# Altium schematic symbol library Printing.SchLib: 50 symbols
Pins are listed as number, name and electrical type; pins without a type are passive.

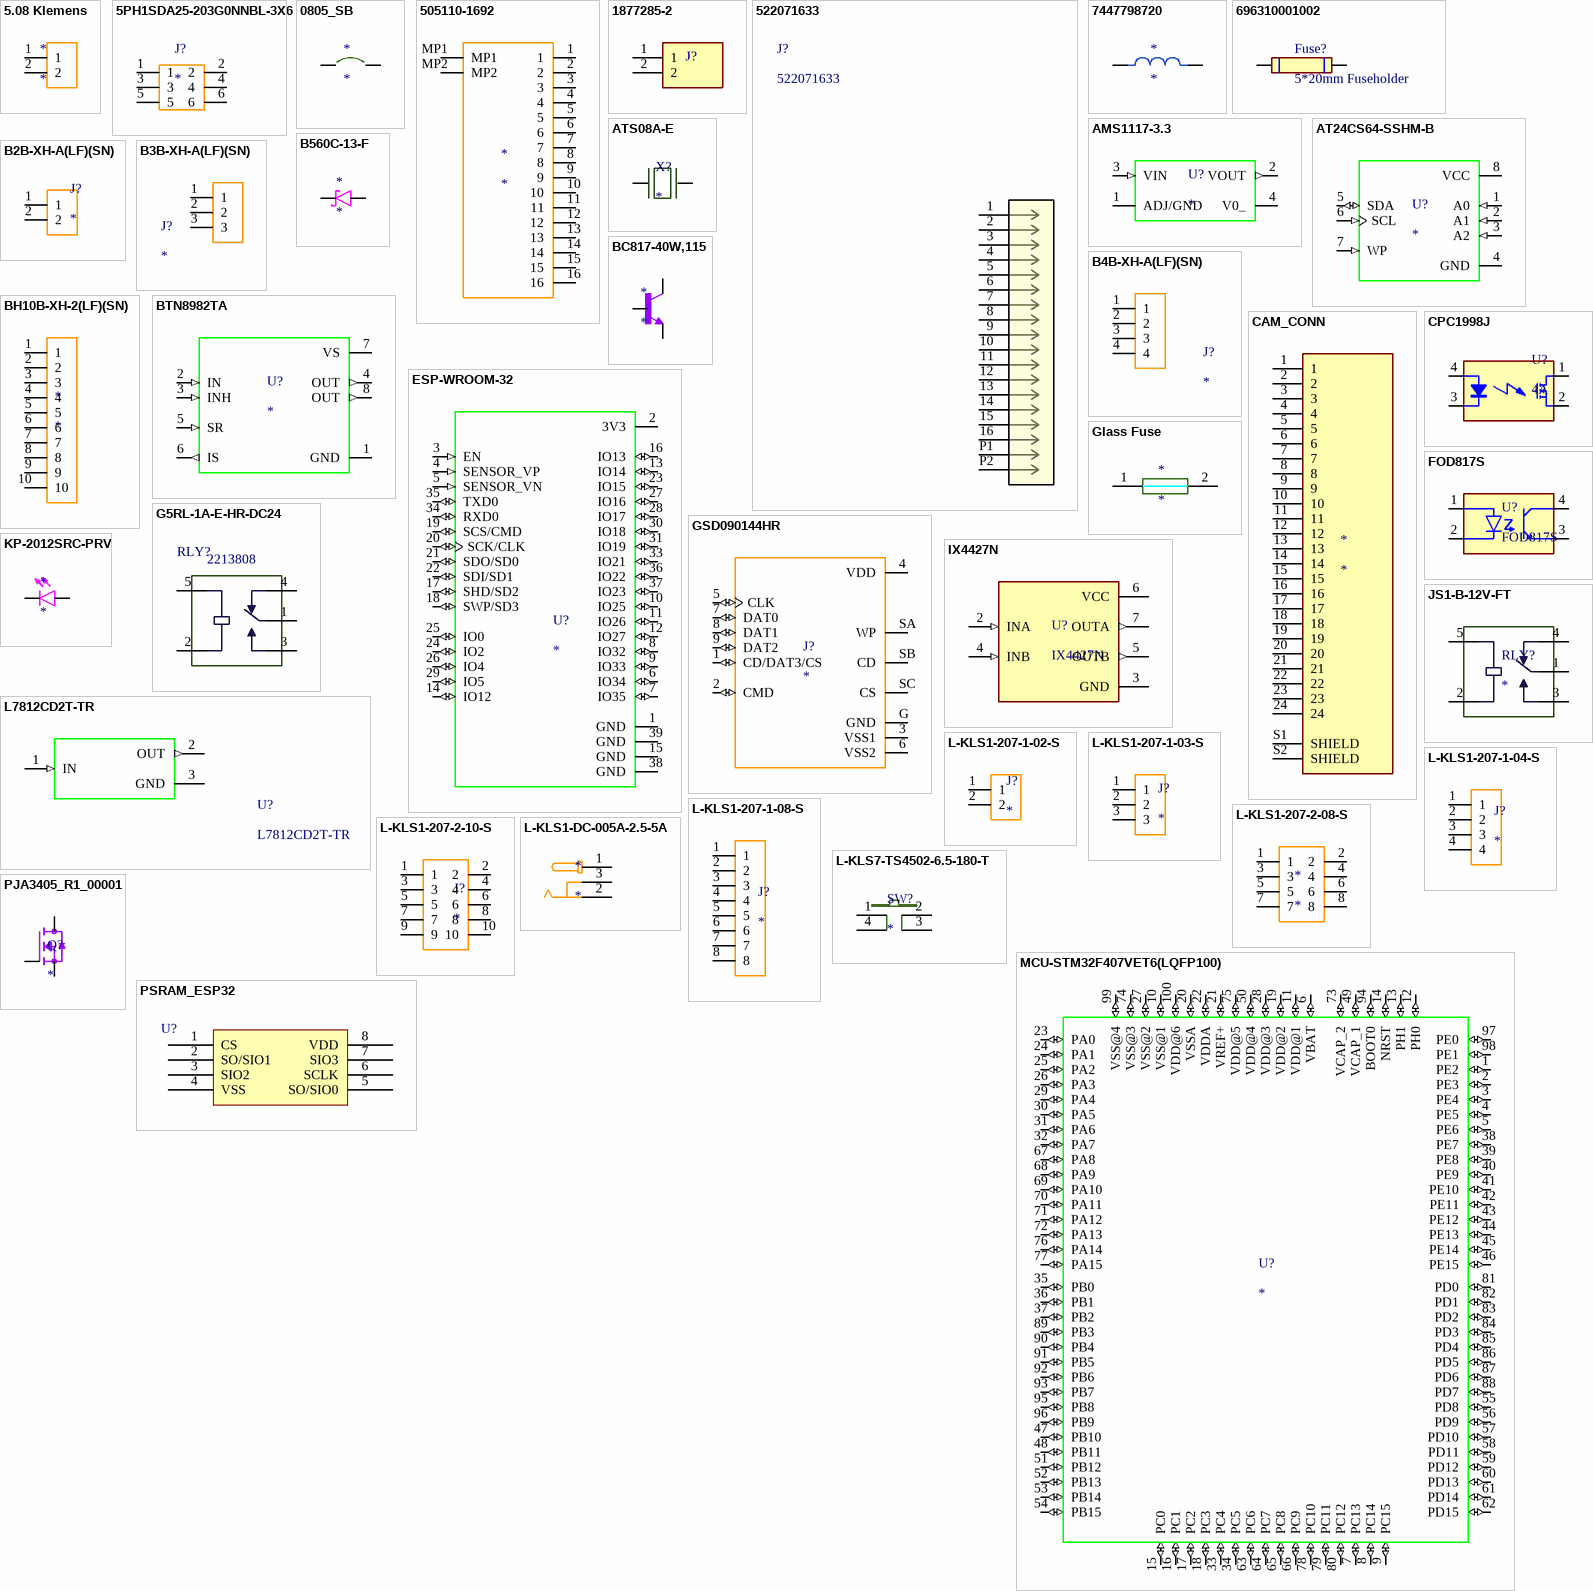
[diagram p0: symbols 5.08 Klemens to PSRAM_ESP32]

## 5.08 Klemens
designator *
footprint 5.08 Klemens
pins: 1, 2

## 5PH1SDA25-203G0NNBL-3X6
designator J?
footprint 5PH1SDA25-203G0NNBL-3X6
pins: 1, 2, 3, 4, 5, 6

## 0805_SB
designator *
footprint 0805_SB
pins: 1, 2

## 505110-1692
designator *
Conn FFC/FPC Connector SKT 16 POS 0.5mm Solder RA SMD Easy-On™ T/R; Manufacturer: Molex; Manufacturer Part Number: 505110-1692; Actuator Material: Nylon,Glass,Polyamide; Number of Positions: 16; Voltage Rating: 50V; Current Rating: 500mA; Gender: Receptacle; Pitch: 0.02inch; Supplier 1: Rs; RoHS: Yes; Category: FFC / FPC; Stock 1: 1; Mount: Surface Mount; Contact Material: Bronze; Contact Plating: Gold; Housing Material: Polymer; Min Operating Temperature: -40°C; Max Operating Temperature: 105°C; Packaging: Cut Tape; Termination: Solder; Number of Rows: 1; Series: Easy-On™ 505110; Flammability Rating: UL94 V-0; ComponentLink1URL: https://media.digikey.com/pdf/Data%20Sheets/Molex%20PDFs/FFC-FPC_Connectors.pdf?src-supplier=Digi-Key; ComponentLink1Description: https://media.digikey.com/pdf/Data%20Sheets/Molex%20PDFs/FFC-FPC_Connectors.pdf?src-supplier=Digi-Key; ComponentLink2URL: https://www.molex.com/datasheets/rohspdf/5051101692_rohs.pdf?src-supplier=Digi-Key; ComponentLink2Description: https://www.molex.com/datasheets/rohspdf/5051101692_rohs.pdf?src-supplier=Digi-Key; ComponentLink3URL: http://www.farnell.com/datasheets/2014276.pdf?src-supplier=Element14; ComponentLink3Description: http://www.farnell.com/datasheets/2014276.pdf?src-supplier=Element14; Supplier Part Number 1: 1116695P
footprint FFC Connector
pins: 1, 2, 3, 4, 5, 6, 7, 8, 9, 10, 11, 12, 13, 14, 15, 16, MP1, MP2

## 1877285-2
designator J?  (value not drawn)
Conn Shrouded Header HDR 2 POS 3.96mm Solder ST Thru-Hole Bag; MP: 1877285-2; Number_of_Positions: 2; MF: TE Connectivity; Centerline_Pitch: 3.96 mm[.156 in]; Arrow_Electronics-Purchase-URL: https://snapeda.com/shop?store=Arrow+Electronics&id=2767123; Availability: Unavailable; Price: None; SnapEDA_Link: https://www.snapeda.com/parts/1877285-2/TE%20Connectivity%20AMP%20Connectors/view-part/2767123/?ref=snap; Product_Type: Header; Package: None; Value: *; DigiKey-Purchase-URL: https://snapeda.com/shop?store=DigiKey&id=2767123
pins: 1, 2

## 522071633
designator J?
No Description Available; Mfr_Name: Molex Connector Corporation; RefDes: RefDes; Type: Type
footprint CON_522071633_MOL
pins: 1, 2, 3, 4, 5, 6, 7, 8, 9, 10, 11, 12, 13, 14, 15, 16, P1, P2

## 7447798720
designator *
Fixed Ind 7.2UH 7.9A 12.8 Mohm; Manufacturer: Wurth Electronics; Manufacturer Part Number: 7447798720; Core Material: Metal,Composite,Ferrite; Saturation Current: 6A; Tolerance: 30%; Shielding: Shielded; Self Resonant Frequency: 31MHz; DC Resistance (DCR): 12.8mR; Test Frequency: 100kHz; Max DC Current: 6.5A; Supplier 1: Newark; RoHS: Yes; Category: Fixed Inductors; Mount: Surface Mount; Case/Package: Nonstandard; Min Operating Temperature: -40°C; Max Operating Temperature: 150°C; Package Quantity: 1; Current Rating: 7.9A; Packaging: Tape and Reel; Inductance Tolerance: 30%; Resistor Type: Wirewound; Inductance: 7.2uH; Termination: SMD/SMT; RMS Current (Irms): 7.9A; Series: WE-PDF; Length: 0.402inch; Width: 10.2mm; Height: 6.4mm; Height - Seated (Max): 0.252inch; RoHS Compliant: Yes; ComponentLink1URL: https://datasheet.ciiva.com/7892/1736564-7892967.pdf?src-supplier=Element14; ComponentLink1Description: https://datasheet.ciiva.com/7892/1736564-7892967.pdf?src-supplier=Element14; ComponentLink2URL: https://datasheet.ciiva.com/6171/530544-6171082.pdf?src-supplier=Farnell; ComponentLink2Description: https://datasheet.ciiva.com/6171/530544-6171082.pdf?src-supplier=Farnell; ComponentLink3URL: https://datasheet.ciiva.com/4954/7447798720-38957-4954724.pdf?src-supplier=Mouser; ComponentLink3Description: https://datasheet.ciiva.com/4954/7447798720-38957-4954724.pdf?src-supplier=Mouser; ComponentLink4URL: https://datasheet.ciiva.com/1060/7447798720-1060960.pdf?src-supplier=Digi-Key; ComponentLink4Description: https://datasheet.ciiva.com/1060/7447798720-1060960.pdf?src-supplier=Digi-Key; ComponentLink5URL: https://datasheet.ciiva.com/1060/7447798720-1060961.pdf?src-supplier=Digi-Key; ComponentLink5Description: https://datasheet.ciiva.com/1060/7447798720-1060961.pdf?src-supplier=Digi-Key; ComponentLink6URL: https://datasheet.ciiva.com/1060/7447798720-1060962.pdf?src-supplier=Digi-Key; ComponentLink6Description: https://datasheet.ciiva.com/1060/7447798720-1060962.pdf?src-supplier=Digi-Key; Supplier Part Number 1: 78R5736
footprint 7447798720
pins: 1, 2

## 696310001002
designator Fuse?, comment 5*20mm Fuseholder
Fuse Holder 20 A 250V 1 Circuit Cartridge Through Hole; MF: Wurth Elektronik; MP: 696310001002; Package: None; Price: None; Value: *; SnapEDA_Link: https://www.snapeda.com/parts/696310001002/Wurth+Elektronik/view-part/?ref=snap; Availability: In Stock; Check_prices: https://www.snapeda.com/parts/696310001002/Wurth+Elektronik/view-part/?ref=eda
footprint 696310001002
pins: 1, 2

## AMS1117-3.3
designator U?
Sot223/Pkg 1-Amp 3.3-Volt Low Drop Out Voltage Regulatator; MP: AMS1117-3.3; MF: Advanced Monolithic Systems; Price: None; Package: None; Value: *; Availability: Unavailable; SnapEDA_Link: https://www.snapeda.com/parts/AMS1117-3.3/Advanced%20Monolithic%20Systems/view-part/53450/?ref=snap
footprint SOT229P700X180-4N
pins: 1 ADJ/GND (power), 2 VOUT (out), 3 VIN (in), 4 V0_

## AT24CS64-SSHM-B
designator U?
IC EEPROM 64K I2C 1MHZ 8SOIC; MP: AT24CS64-SSHM-B; Package: None; Price: None; Value: *; Availability: Unavailable
footprint SOIC127P599X175-8N
pins: 1 A0 (in), 2 A1 (in), 3 A2 (in), 4 GND (power), 5 SDA (io), 6 SCL (in), 7 WP (in), 8 VCC (power)

## ATS08A-E
designator X?
8MHz Â±30ppm Crystal 20pF 60 Ohms HC-49/US; MF: CTS-Frequency Controls; MP: ATS08A-E; Price: None; Availability: Good; Package: HC-49/US CTS-Frequency Controls; Purchase-URL: https://pricing.snapeda.com/search/part/ATS08A-E/?ref=eda; SnapEDA_Link: https://www.snapeda.com/parts/ATS08A-E/CTS-Frequency%20Controls/view-part/2457201/?ref=snap; Value: *; Check_prices: https://www.snapeda.com/parts/ATS08A-E/CTS-Frequency%20Controls/view-part/2457201/?ref=eda
footprint XTAL_HC49P488W43L1085T450H368
pins: 1, 2

## B2B-XH-A(LF)(SN)
designator J?
Connector Header Through Hole 2 position 0.098 (2.50mm); MP: B2B-XH-A(LF)(SN); MF: JST Sales; Package: None; SnapEDA_Link: https://www.snapeda.com/parts/B2B-XH-A(LF)(SN)/JST+Sales+America+Inc./view-part/?ref=snap; Purchase-URL: https://pricing.snapeda.com/search/part/B2B-XH-A(LF)(SN)/?ref=eda; Check_prices: https://www.snapeda.com/parts/B2B-XH-A(LF)(SN)/JST+Sales+America+Inc./view-part/?ref=eda; Availability: In Stock; Value: *; Price: None
footprint JST_B2B-XH-A(LF)(SN)
pins: 1, 2

## B3B-XH-A(LF)(SN)
designator J?
MP: B3B-XH-A(LF)(SN); Value: *; Availability: Unavailable; Package: None; Price: None
footprint JST_B3B-XH-A(LF)(SN)
pins: 1, 2, 3

## B4B-XH-A(LF)(SN)
designator J?
MP: B4B-XH-A(LF)(SN); Price: None; Value: *; Availability: Unavailable; Package: None
footprint JST_B4B-XH-A(LF)(SN)
pins: 1, 2, 3, 4

## B560C-13-F
designator *
VR=60V IF=5A 300pF; Manufacturer: Diodes; Manufacturer Part Number: B560C-13-F; Forward Current: 5A; Max Reverse Current: 500uA; Max Repetitive Reverse Voltage (Vrrm): 60V; Element Configuration: Single; Polarity: Standard; Forward Voltage: 700mV; Max Forward Surge Current (Ifsm): 100A; Supplier 1: Farnell; RoHS: Yes; Category: Rectifier Diodes; Stock 1: 3160; Pricing 1: 5=0,58300, 10=0,49900, 100=0,37300, 500=0,29400 (EUR); Mount: Surface Mount; Case/Package: SMC; Number of Pins: 2; Weight: 0.007408oz; Contact Plating: Tin,Matte; Min Operating Temperature: -55°C; Max Operating Temperature: 125°C; Package Quantity: 3000; Packaging: Tape and Reel; Output Current: 5A; Series: -; Average Rectified Current: 5A; Peak Non-Repetitive Surge Current: 100A; Termination: SMD/SMT; Voltage Rating (DC): 60V; Current Rating: 5A; Capacitance: 300pF; Max Reverse Voltage (DC): 60V; Length: 7.11mm; Width: 6.22mm; Height: 2.5mm; Radiation Hardening: No; Lead Free: Lead Free; RoHS Compliant: Yes; Reach SVHC Compliant: Yes; ComponentLink1URL: https://datasheet.ciiva.com/27052/1538961-27052355.pdf?src-supplier=Jameco; ComponentLink1Description: https://datasheet.ciiva.com/27052/1538961-27052355.pdf?src-supplier=Jameco; ComponentLink2URL: https://datasheet.ciiva.com/1177/ds13012-1177532.pdf?src-supplier=Element14; ComponentLink2Description: https://datasheet.ciiva.com/1177/ds13012-1177532.pdf?src-supplier=Element14; ComponentLink3URL: https://datasheet.ciiva.com/16389/ds13012-16389735.pdf?src-supplier=Future+Electronics; ComponentLink3Description: https://datasheet.ciiva.com/16389/ds13012-16389735.pdf?src-supplier=Future+Electronics; ComponentLink4URL: https://datasheet.ciiva.com/15144/getdatasheetpartid-89786-15144652.pdf?src-supplier=Verical; ComponentLink4Description: https://datasheet.ciiva.com/15144/getdatasheetpartid-89786-15144652.pdf?src-supplier=Verical; ComponentLink5URL: https://datasheet.ciiva.com/914/ds13012-914986.pdf?src-supplier=Digi-Key; ComponentLink5Description: https://datasheet.ciiva.com/914/ds13012-914986.pdf?src-supplier=Digi-Key; ComponentLink6URL: https://datasheet.ciiva.com/914/ds13012-914987.pdf?src-supplier=Digi-Key; ComponentLink6Description: https://datasheet.ciiva.com/914/ds13012-914987.pdf?src-supplier=Digi-Key; ComponentLink7URL: https://datasheet.ciiva.com/914/ds13012-914985.pdf?src-supplier=Digi-Key; ComponentLink7Description: https://datasheet.ciiva.com/914/ds13012-914985.pdf?src-supplier=Digi-Key; Supplier Part Number 1: 1858602
footprint B560C-13-F
pins: A, K

## BC817-40W,115
designator *
NPN Ic=500mA Vceo=45V hfe=250~600 P=250mW; Manufacturer: Nexperia; Manufacturer Part Number: BC817-40W,115; Supplier 1: Farnell; RoHS: Yes; Category: BJTs; Stock 1: 58090; Pricing 1: 5=0,16300, 50=0,12900, 100=0,09400, 500=0,04600 (EUR); RoHS Compliant: Yes; ComponentLink1URL: http://www.farnell.com/datasheets/2242064.pdf?src-supplier=Farnell; ComponentLink1Description: http://www.farnell.com/datasheets/2242064.pdf?src-supplier=Farnell; ComponentLink2URL: https://assets.nexperia.com/documents/data-sheet/BC817W_SER.pdf?src-supplier=Digi-Key; ComponentLink2Description: https://assets.nexperia.com/documents/data-sheet/BC817W_SER.pdf?src-supplier=Digi-Key; ComponentLink3URL: http://www.farnell.com/datasheets/2242064.pdf?src-supplier=Newark; ComponentLink3Description: http://www.farnell.com/datasheets/2242064.pdf?src-supplier=Newark; Supplier Part Number 1: 2319233
footprint BC817-40W,115
pins: 1 B, 2 E, 3 C

## BH10B-XH-2(LF)(SN)
designator *
Connector Header, XH Series, 10 Position, 2.5mm, 250V, Through Hole, Press Fit, Solder, Natural; Manufacturer: JST; Manufacturer Part Number: BH10B-XH-2(LF)(SN); Supplier 1: Digi-Key; RoHS: No; Category: Connectors; Stock 1: 53; Pricing 1: 1=0,77000, 10=0,65200, 100=0,58540, 500=0,47898, 1000=0,42576, 5000=0,37254, 10000=0,35392 (USD); ComponentLink1URL: http://www.jst-mfg.com/product/pdf/eng/eXH-H.pdf?src-supplier=Digi-Key; ComponentLink1Description: http://www.jst-mfg.com/product/pdf/eng/eXH-H.pdf?src-supplier=Digi-Key; Supplier Part Number 1: 455-BH10B-XH-2(LF)(SN)-ND
footprint BH10B-XH-2(LF)(SN)
pins: 1, 2, 3, 4, 5, 6, 7, 8, 9, 10

## BTN8982TA
designator U?
Motor / Motion / Ignition Controllers & Drivers TRILITH IC / NOVALITH IC; MP: BTN8982TA; MF: Infineon Technologies; Price: None; Availability: In Stock; Package: TO-263-8 Infineon Technologies; SnapEDA_Link: https://www.snapeda.com/parts/BTN8982TA/Infineon+Technologies/view-part/?ref=snap; Check_prices: https://www.snapeda.com/parts/BTN8982TA/Infineon+Technologies/view-part/?ref=eda; Value: *; Purchase-URL: https://pricing.snapeda.com/search/part/BTN8982TA/?ref=eda
footprint DPAK127P1500X440-8N
pins: 1 GND (power), 2 IN (in), 3 INH (in), 4 OUT (out), 5 SR (in), 6 IS (out), 7 VS (power), 8 OUT (out)

## CAM_CONN
designator *
footprint CAM_CONN
pins: 1, 2, 3, 4, 5, 6, 7, 8, 9, 10, 11, 12, 13, 14, 15, 16, 17, 18, 19, 20, 21, 22, 23, 24, S1 SHIELD, S2 SHIELD

## CPC1998J
designator U?, comment 4A
footprint I4-PAC
pins: 1 DS1, 2 DS2, 3 K, 4 A

## ESP-WROOM-32
designator U?
footprint ESP_DUAL
pins: 1 GND (power), 2 3V3 (power), 3 EN (in), 4 SENSOR_VP (in), 5 SENSOR_VN (in), 6 IO34 (io), 7 IO35 (io), 8 IO32 (io), 9 IO33 (io), 10 IO25 (io), 11 IO26 (io), 12 IO27 (io), 13 IO14 (io), 14 IO12 (io), 15 GND (power), 16 IO13 (io), 17 SHD/SD2 (io), 18 SWP/SD3 (io), 19 SCS/CMD (io), 20 SCK/CLK (io), 21 SDO/SD0 (io), 22 SDI/SD1 (io), 23 IO15 (io), 24 IO2 (io), 25 IO0 (io), 26 IO4 (io), 27 IO16 (io), 28 IO17 (io), 29 IO5 (io), 30 IO18 (io), 31 IO19 (io), 33 IO21 (io), 34 RXD0 (io), 35 TXD0 (io), 36 IO22 (io), 37 IO23 (io), 38 GND (power), 39 GND (power)

## FOD817S
designator U?
Optoisolator Transistor Output 5000Vrms 1 Channel 4-SMD; MF: ON Semiconductor; Price: None; Availability: Unavailable; Package: SMD-4 ON Semiconductor; SnapEDA_Link: https://www.snapeda.com/parts/FOD817S/ON%20Semiconductor/view-part/2890432/?ref=snap; MP: FOD817S; Value: *
footprint SOIC254P1016X385-4N
pins: 1 ANODE, 2 CATHODE, 3 EMITTER, 4 COLLECTOR

## G5RL-1A-E-HR-DC24
designator RLY?  Supplier Part Number 1: 2213808  (hidden comment: *)
Electromechanical Relay SPST-NO 16A 24VDC 1.44KOhm Through Hole; Manufacturer: Omron; Manufacturer Part Number: G5RL-1A-E-HR-DC24; Throw Configuration: SPST; Coil Current: 16.7mA; Coil Resistance: 1.44kR; Operate Time: 15ms; Coil Voltage (DC): 24V; Coil Type: Non-Latching; Max Voltage Rating (AC): 250V; Relay Type: General Purpose; Power Consumption: 400mW; Supplier 1: Farnell; RoHS: Yes; Category: Power Relays; Stock 1: 99; Pricing 1: 1=4,95, 10=4,18, 25=3,71, 50=3,53, 100=3,34 (EUR); Mount: Through Hole; Case/Package: DIP; Number of Pins: 6; Contact Material: Silver,Cadmium; Weight: 10g; Min Operating Temperature: -40°C; Max Operating Temperature: 85°C; Contact Current Rating: 16A; Termination: PC Pin; Max Voltage Rating (DC): 24V; Max Current Rating: 16A; Length: 28.8mm; Reach SVHC Compliant: Unknown; Lead Free: Lead Free; ComponentLink1URL: https://datasheet.ciiva.com/30265/65en-g5rl-30265020.pdf?src-supplier=Onlinecomponents.com; ComponentLink1Description: https://datasheet.ciiva.com/30265/65en-g5rl-30265020.pdf?src-supplier=Onlinecomponents.com; ComponentLink2URL: https://datasheet.ciiva.com/15732/g5rl-0609-15732111.pdf?src-supplier=Onlinecomponents.com; ComponentLink2Description: https://datasheet.ciiva.com/15732/g5rl-0609-15732111.pdf?src-supplier=Onlinecomponents.com; ComponentLink3URL: https://datasheet.ciiva.com/8000/697034-8000459.pdf?src-supplier=Element14; ComponentLink3Description: https://datasheet.ciiva.com/8000/697034-8000459.pdf?src-supplier=Element14
footprint relay
pins: 1 COM, 2 COIL2, 3 NO, 4 NC, 5 COIL1

## Glass Fuse
designator *
footprint 2410 Sigorta
pins: 1, 2

## GSD090144HR
designator J?
Sd Card Connector, Push-push Type, 9 Position.; MP: GSD090144HR; MF: Amphenol ICC (Commercial Products); Price: None; Availability: In Stock; Package: None; SnapEDA_Link: https://www.snapeda.com/parts/GSD090144HR/Amphenol/view-part/?ref=snap; Check_prices: https://www.snapeda.com/parts/GSD090144HR/Amphenol/view-part/?ref=eda; Value: *; Purchase-URL: https://pricing.snapeda.com/search/part/GSD090144HR/?ref=eda
footprint AMPHENOL_GSD090144HR
pins: 1 CD/DAT3/CS (io), 2 CMD (io), 3 VSS1 (power), 4 VDD (power), 5 CLK (io), 6 VSS2 (power), 7 DAT0 (io), 8 DAT1 (io), 9 DAT2 (io), G GND (power), SA WP, SB CD, SC CS

## IX4427N
designator U?
Low-Side Gate Driver IC Non-Inverting 8-SOIC; MF: IXYS Integrated; Value: *; MP: IX4427N; Package: SOIC-8 IXYS; Availability: Good; DigiKey-Purchase-URL: https://snapeda.com/shop?store=DigiKey&id=610744; Price: None; SnapEDA_Link: https://www.snapeda.com/parts/IX4427N/IXYS%20Integrated%20Circuits%20Division/view-part/610744/?ref=snap; Mouser-Purchase-URL: https://snapeda.com/shop?store=Mouser&id=610744; Arrow_Electronics-Purchase-URL: https://snapeda.com/shop?store=Arrow+Electronics&id=610744
footprint SOIC127P600X175-8N
pins: 2 INA (in), 3 GND (power), 4 INB (in), 5 OUTB (out), 6 VCC (power), 7 OUTA (out)

## JS1-B-12V-FT
designator RLY?
footprint JS1-B-12V-FT
pins: 1 COM, 2 COIL2, 3 NO, 4 NC, 5 COIL1

## KP-2012SRC-PRV
designator *
KP-2012SRC-PRV Red LED, 640 nm 2012 (0805), Rectangle Lens SMD package; Manufacturer: Kingbright; Lens Color: Clear; Viewing Angle: 120°; Lens Style: Rectangular,Diffused,Colorless; Number of LEDs: 1; Wavelength: 640nm; Luminous Intensity: 100mcd; Forward Voltage: 1.85V; Forward Current: 20mA; Supplier 1: Farnell; Manufacturer Part Number: KP-2012SRC-PRV; RoHS: Yes; Category: LEDs; Pricing 1: 5=0,12900, 50=0,10200, 100=0,09830, 500=0,08370, 1000=0,07290 (EUR); Mount: Surface Mount; Case/Package: 2012; Number of Pins: 2; Color: Red; Min Operating Temperature: -40°C; Max Operating Temperature: 85°C; Packaging: Cut Tape; Dominant Wavelength: 640nm; Radiation Hardening: No; Reach SVHC Compliant: Yes; RoHS Compliant: Yes; ComponentLink1URL: https://datasheet.ciiva.com/14176/kp2012src-prv-eng-tds-14176962.pdf?src-supplier=Distrelec; ComponentLink1Description: https://datasheet.ciiva.com/14176/kp2012src-prv-eng-tds-14176962.pdf?src-supplier=Distrelec; ComponentLink2URL: https://datasheet.ciiva.com/11773/0900766b8032fa8d-11773524.pdf?src-supplier=RSComponents; ComponentLink2Description: https://datasheet.ciiva.com/11773/0900766b8032fa8d-11773524.pdf?src-supplier=RSComponents; ComponentLink3URL: https://datasheet.ciiva.com/14634/0900766b8032fa8d-14634746.pdf?src-supplier=Allied+Electronics; ComponentLink3Description: https://datasheet.ciiva.com/14634/0900766b8032fa8d-14634746.pdf?src-supplier=Allied+Electronics; ComponentLink4URL: https://datasheet.ciiva.com/29281/180105-da-01-en-led-0805-typ-kp-2012src-prv-29281248.pdf?src-supplier=Conrad; ComponentLink4Description: https://datasheet.ciiva.com/29281/180105-da-01-en-led-0805-typ-kp-2012src-prv-29281248.pdf?src-supplier=Conrad; Supplier Part Number 1: 1318244
footprint 0805 LED
pins: A, K C

## L7812CD2T-TR
designator U?
Linear Voltage Regulator IC Positive Fixed 1 Output 12V 1.5A D2PAK; Manufacturer: STMicroelectronics; Number of Outputs: 1; Max Input Voltage: 35V; Quiescent Current: 8mA; Min Input Voltage: 14V; Dropout Voltage: 2V; Power Supply Rejection Ratio (PSRR): 55dB; Supplier 1: Farnell; Manufacturer Part Number: L7812CD2T-TR; RoHS: Yes; Category: Voltage Regulators - Linear; Stock 1: 1396; Pricing 1: 1=1,17000, 10=0,99100, 100=0,76100, 500=0,67300 (EUR); Mount: Surface Mount; Case/Package: TO-263; Number of Pins: 3; Weight: 0.01lb; Contact Plating: Tin,Matte; Min Operating Temperature: 0°C; Max Operating Temperature: 125°C; Max Output Current: 1.5A; Output Voltage: 12V; Polarity: Positive; Output Type: Fixed; Output Current: 1.5A; Packaging: Tape and Reel; Package Quantity: 1; Nominal Output Voltage: 12V; Number of Regulators: 1; Min Output Voltage: 12V; Max Output Voltage: 12V; Series: -; Length: 10.4mm; Width: 9.35mm; Height: 4.6mm; Radiation Hardening: No; Reach SVHC Compliant: Yes; Lead Free: Lead Free; RoHS Compliant: Yes; ComponentLink1URL: https://datasheet.ciiva.com/34303/2027434-34303936.pdf?src-supplier=Jameco; ComponentLink1Description: https://datasheet.ciiva.com/34303/2027434-34303936.pdf?src-supplier=Jameco; ComponentLink2URL: https://datasheet.ciiva.com/5697/1696820-5697199.pdf?src-supplier=Farnell; ComponentLink2Description: https://datasheet.ciiva.com/5697/1696820-5697199.pdf?src-supplier=Farnell; ComponentLink3URL: https://datasheet.ciiva.com/1511/1805459-1511925.pdf?src-supplier=Element14; ComponentLink3Description: https://datasheet.ciiva.com/1511/1805459-1511925.pdf?src-supplier=Element14; ComponentLink4URL: https://datasheet.ciiva.com/7992/1805459-7992588.pdf?src-supplier=Element14; ComponentLink4Description: https://datasheet.ciiva.com/7992/1805459-7992588.pdf?src-supplier=Element14; ComponentLink5URL: https://datasheet.ciiva.com/2042/cd00000444-2042893.pdf?src-supplier=Digi-Key; ComponentLink5Description: https://datasheet.ciiva.com/2042/cd00000444-2042893.pdf?src-supplier=Digi-Key; ComponentLink6URL: https://datasheet.ciiva.com/2042/cd00000444-2042892.pdf?src-supplier=Digi-Key; ComponentLink6Description: https://datasheet.ciiva.com/2042/cd00000444-2042892.pdf?src-supplier=Digi-Key; ComponentLink7URL: https://datasheet.ciiva.com/2042/cd00000444-2042894.pdf?src-supplier=Digi-Key; ComponentLink7Description: https://datasheet.ciiva.com/2042/cd00000444-2042894.pdf?src-supplier=Digi-Key
footprint TO254P1515X470-3N
pins: 1 IN (in), 2 OUT (out), 3 GND (power)

## L-KLS1-207-1-02-S
designator J?
footprint L-KLS1-207-1-02-S
pins: 1, 2

## L-KLS1-207-1-03-S
designator J?
footprint L-KLS1-207-1-03-S
pins: 1, 2, 3

## L-KLS1-207-1-04-S
designator J?
footprint L-KLS1-207-1-04-S
pins: 1, 2, 3, 4

## L-KLS1-207-1-08-S
designator J?
footprint L-KLS1-207-1-08-S
pins: 1, 2, 3, 4, 5, 6, 7, 8

## L-KLS1-207-2-08-S
designator *
footprint L-KLS1-207-2-08-S
pins: 1, 2, 3, 4, 5, 6, 7, 8

## L-KLS1-207-2-10-S
designator J?
footprint L-KLS1-207-2-10-S
pins: 1, 2, 3, 4, 5, 6, 7, 8, 9, 10

## L-KLS1-DC-005A-2.5-5A
designator *
footprint Power Jack
pins: 1, 2, 3

## L-KLS7-TS4502-6.5-180-T
designator SW?
footprint L-KLS7-TS4502-6.5-180-T
pins: 1 A0, 2 B0, 3 B1, 4 A1

## MCU-STM32F407VET6(LQFP100)
designator U?
ARMÂ® CortexÂ®-M4 STM32F4 Microcontroller IC 32-Bit 168MHz 512KB _512K x 8_ FLASH 100-LQFP _14x14_; MF: STMicroelectronics; MP: STM32F407VET6; SnapEDA_Link: https://www.snapeda.com/parts/STM32F407VET6/STMicroelectronics/view-part/45214/?ref=snap; Price: None; Package: LQFP-100 STMicroelectronics; Value: *; Availability: Unavailable
footprint LQFP100-0.5-13.8X13.8MM
pins: 1 PE2 (io), 2 PE3 (io), 3 PE4 (io), 4 PE5 (io), 5 PE6 (io), 6 VBAT (io), 7 PC13 (io), 8 PC14 (io), 9 PC15 (io), 10 VSS@1 (io), 11 VDD@1 (io), 12 PH0 (io), 13 PH1 (io), 14 NRST (io), 15 PC0 (io), 16 PC1 (io), 17 PC2 (io), 18 PC3 (io), 19 VDD@2 (io), 20 VSSA (io), 21 VREF+ (io), 22 VDDA (io), 23 PA0 (io), 24 PA1 (io), 25 PA2 (io), 26 PA3 (io), 27 VSS@2 (io), 28 VDD@3 (io), 29 PA4 (io), 30 PA5 (io), 31 PA6 (io), 32 PA7 (io), 33 PC4 (io), 34 PC5 (io), 35 PB0 (io), 36 PB1 (io), 37 PB2 (io), 38 PE7 (io), 39 PE8 (io), 40 PE9 (io), 41 PE10 (io), 42 PE11 (io), 43 PE12 (io), 44 PE13 (io), 45 PE14 (io), 46 PE15 (io), 47 PB10 (io), 48 PB11 (io), 49 VCAP_1 (io), 50 VDD@4 (io), 51 PB12 (io), 52 PB13 (io), 53 PB14 (io), 54 PB15 (io), 55 PD8 (io), 56 PD9 (io), 57 PD10 (io), 58 PD11 (io), 59 PD12 (io), 60 PD13 (io), 61 PD14 (io), 62 PD15 (io), 63 PC6 (io), 64 PC7 (io), 65 PC8 (io), 66 PC9 (io), 67 PA8 (io), 68 PA9 (io), 69 PA10 (io), 70 PA11 (io), 71 PA12 (io), 72 PA13 (io), 73 VCAP_2 (io), 74 VSS@3 (io), 75 VDD@5 (io), 76 PA14 (io), 77 PA15 (io), 78 PC10 (io), 79 PC11 (io), 80 PC12 (io), 81 PD0 (io), 82 PD1 (io), 83 PD2 (io), 84 PD3 (io), 85 PD4 (io), 86 PD5 (io), 87 PD6 (io), 88 PD7 (io), 89 PB3 (io), 90 PB4 (io), 91 PB5 (io), 92 PB6 (io), 93 PB7 (io), 94 BOOT0 (io), 95 PB8 (io), 96 PB9 (io), 97 PE0 (io), 98 PE1 (io), 99 VSS@4 (io), 100 VDD@6 (io)

## PJA3405_R1_00001
designator Q?
Power Field-Effect Transistor, 3.6A I(D), 30V, 0.073ohm, 1-Element, P-Channel, Silicon, Metal-oxide Semiconductor FET; Manufacturer: Pan Jit; Manufacturer Part Number: PJA3405_R1_00001; Supplier 1: Digi-Key; RoHS: Yes; Stock 1: 17264; Pricing 1: 1=0,44000, 10=0,33400, 100=0,20830, 500=0,14250, 1000=0,10962 (USD); Supplier Part Number 1: 3757-PJA3405_R1_00001CT-ND
footprint PJA3405_R1_00001
pins: 1 G, 2 S, 3 D

## PSRAM_ESP32
designator U?  (value not drawn)
footprint SOP8
pins: 1 CS, 2 SO/SIO1, 3 SIO2, 4 VSS, 5 SO/SIO0, 6 SCLK, 7 SIO3, 8 VDD

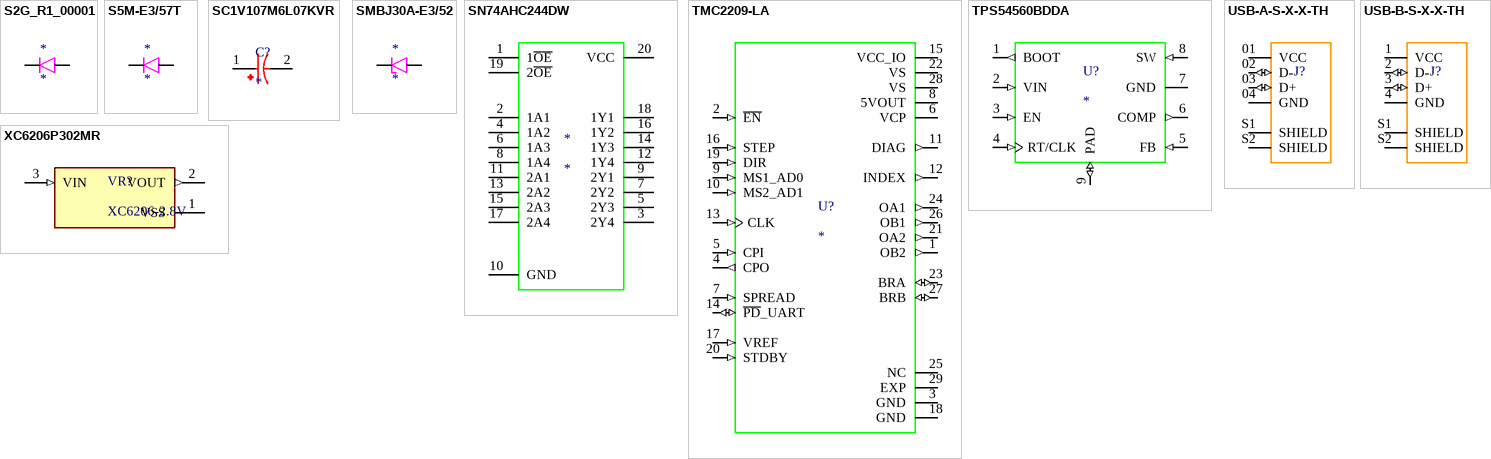
[diagram p1: symbols S2G_R1_00001 to XC6206P302MR]

## S2G_R1_00001
designator *
Diode 400V 2A 2-Pin SMB T/R; Manufacturer: Pan Jit; Manufacturer Part Number: S2G_R1_00001; Max Reverse Current: 1uA; Peak Non-Repetitive Surge Current: 60A; Element Configuration: Single; Supplier 1: Digi-Key; RoHS: Yes; Category: Rectifier Diodes; Stock 1: 75; Pricing 1: 1=0,33000, 10=0,26900, 100=0,14270 (USD); Mount: Surface Mount; Case/Package: SMB; Number of Pins: 2; Min Operating Temperature: -55°C; Max Operating Temperature: 150°C; Forward Current: 2A; Max Repetitive Reverse Voltage (Vrrm): 400V; RoHS Compliant: Yes; ComponentLink1URL: http://www.panjit.com/upload/product/18/S2A_SERIES.pdf?src-supplier=Avnet; ComponentLink1Description: http://www.panjit.com/upload/product/18/S2A_SERIES.pdf?src-supplier=Avnet; Supplier Part Number 1: 3757-S2G_R1_00001CT-ND
footprint S2G_R1_00001
pins: A, K

## S5M-E3/57T
designator *
STANDARD DIODE, 5A, 1KV, DO-214AB, FULL REEL; Diode Configuration:Single; Repetitive Reverse Voltage Vrrm Max:1kV; Forward Current If(AV):5A; Forward Voltage VF Max:1.15V; Forward Surge Current Ifsm Max:100A; No. of Pins:2 Pin ;RoHS Compliant: Yes; Manufacturer: Vishay Semiconductors; Manufacturer Part Number: S5M-E3/57T; Max Surge Current: 100A; Forward Voltage: 1.15V; Max Reverse Current: 10uA; Reverse Recovery Time: 2.5us; Element Configuration: Single; Recovery Time: 2500ns; Capacitance: 40pF; Supplier 1: Farnell; RoHS: Yes; Category: Rectifier Diodes; Stock 1: 21261; Pricing 1: 5=0,46000, 10=0,38000, 100=0,29400, 500=0,17900, 1000=0,15400, 5000=0,14900 (EUR); Mount: Surface Mount; Case/Package: SMC; Number of Pins: 2; Contact Plating: Tin,Matte; Min Operating Temperature: -55°C; Max Operating Temperature: 150°C; Package Quantity: 850; Packaging: Tape and Reel; Forward Current: 5A; Average Rectified Current: 5A; Max Repetitive Reverse Voltage (Vrrm): 1kV; Peak Non-Repetitive Surge Current: 100A; Max Forward Surge Current (Ifsm): 100A; Max Reverse Voltage (DC): 1kV; Series: -; Polarity: Standard; Voltage Rating (DC): 1kV; Current Rating: 5A; Output Current: 5A; Current: 5A; Voltage: 1kV; Reverse Voltage: 1kV; Length: 7.11mm; Width: 6.22mm; Height: 2.42mm; Radiation Hardening: No; RoHS Compliant: Yes; Lead Free: Lead Free; ComponentLink1URL: https://datasheet.ciiva.com/26295/1912895-26295382.pdf?src-supplier=Element14; ComponentLink1Description: https://datasheet.ciiva.com/26295/1912895-26295382.pdf?src-supplier=Element14; ComponentLink2URL: https://datasheet.ciiva.com/46435/1794161-46435942.pdf?src-supplier=Element14; ComponentLink2Description: https://datasheet.ciiva.com/46435/1794161-46435942.pdf?src-supplier=Element14; ComponentLink3URL: https://datasheet.ciiva.com/8287/s5a-8287111.pdf?src-supplier=Avnet; ComponentLink3Description: https://datasheet.ciiva.com/8287/s5a-8287111.pdf?src-supplier=Avnet; Supplier Part Number 1: 2395851
footprint B560C-13-F
pins: A, K

## SC1V107M6L07KVR
designator C?
footprint SC1V107M6L07KVR
pins: 1, 2

## SMBJ30A-E3/52
designator *
TVS DIODE 30VWM 48.4VC SMB; Manufacturer: Vishay Semiconductors; Manufacturer Part Number: SMBJ30A-E3/52; Breakdown Voltage: 36.8V; Number of Elements: 1; Direction: Unidirectional; Reverse Breakdown Voltage: 33.3V; Operating Supply Voltage: 30V; Max Surge Current: 12.4A; Clamping Voltage: 48.4V; Peak Pulse Power: 600W; Test Current: 1mA; Max Reverse Leakage Current: 1uA; Element Configuration: Single; Power Line Protection: No; Diode Type: ZENER; Supplier 1: Rs; RoHS: Yes; Category: TVS Diodes; Stock 1: 1; Mount: Surface Mount; Case/Package: DO-214AA; Number of Pins: 2; Min Operating Temperature: -55°C; Max Operating Temperature: 150°C; Packaging: Tape and Reel; Package Quantity: 750; Reverse Standoff Voltage: 30V; Polarity: Unidirectional; Number of Channels: 1; Peak Pulse Current: 12.4A; Min Breakdown Voltage: 33.3V; Max Breakdown Voltage: 36.8V; Max Power Dissipation: 600W; Power Dissipation: 600W; Leakage Current: 1uA; Clamping Voltage-Max: 48.4V; Termination: SMD/SMT; Resistor Type: Zener; Number of Unidirectional Channels: 1; Series: TransZorb®; Length: 4.57mm; Width: 3.94mm; Height: 2.24mm; Radiation Hardening: No; Lead Free: Lead Free; RoHS Compliant: Yes; ComponentLink1URL: https://datasheet.ciiva.com/28654/1691222-28654369.pdf?src-supplier=Element14; ComponentLink1Description: https://datasheet.ciiva.com/28654/1691222-28654369.pdf?src-supplier=Element14; ComponentLink2URL: https://datasheet.ciiva.com/26322/139043-26322383.pdf?src-supplier=Element14; ComponentLink2Description: https://datasheet.ciiva.com/26322/139043-26322383.pdf?src-supplier=Element14; ComponentLink3URL: https://datasheet.ciiva.com/26322/139043-26322382.pdf?src-supplier=Element14; ComponentLink3Description: https://datasheet.ciiva.com/26322/139043-26322382.pdf?src-supplier=Element14; ComponentLink4URL: https://datasheet.ciiva.com/330/smbj50a-330951.pdf?src-supplier=Digi-Key; ComponentLink4Description: https://datasheet.ciiva.com/330/smbj50a-330951.pdf?src-supplier=Digi-Key; ComponentLink5URL: https://datasheet.ciiva.com/330/smbj50a-330952.pdf?src-supplier=Digi-Key; ComponentLink5Description: https://datasheet.ciiva.com/330/smbj50a-330952.pdf?src-supplier=Digi-Key; ComponentLink6URL: https://datasheet.ciiva.com/330/smbj50a-330950.pdf?src-supplier=Digi-Key; ComponentLink6Description: https://datasheet.ciiva.com/330/smbj50a-330950.pdf?src-supplier=Digi-Key; Supplier Part Number 1: 0229762P
footprint S2G_R1_00001
pins: A, K

## SN74AHC244DW
designator *
Buffer/Line Driver 8-CH Non-Inverting 3-ST CMOS 20-Pin SOIC Tube; Manufacturer: Texas Instruments; Manufacturer Part Number: SN74AHC244DW; Number of Channels: 8; Max Supply Voltage: 5.5V; Min Supply Voltage: 2V; Propagation Delay: 16ns; Number of Elements: 2; Logic Function: Buffer,Inverting; Number of Bits per Element: 4; High Level Output Current: -8mA; Low Level Output Current: 8mA; Turn-On Delay Time: 11.9ns; Quiescent Current: 4uA; Output Type: 3-STATE; Supplier 1: Arrow Electronics; RoHS: Yes; Category: Buffers, Drivers and Transceivers; Stock 1: 5; Pricing 1: 1=0,84130, 10=0,80590, 25=0,78200, 50=0,77410, 100=0,71270, 250=0,68820, 500=0,54870 (USD); Mount: Surface Mount; Case/Package: SOIC; Number of Pins: 20; Min Operating Temperature: -40°C; Max Operating Temperature: 85°C; Number of Inputs: 8; Number of Outputs: 8; Packaging: Rail/Tube; Package Quantity: 25; Number of Input Lines: 8; Number of Output Lines: 8; Polarity: Non-Inverting; Series: 74AHC; Technology: CMOS; Number of Bits: 8; Termination: SMD/SMT; Number of Circuits: 8; Length: 12.8mm; Width: 7.52mm; Height: 2.35mm; Radiation Hardening: No; Lead Free: Lead Free; RoHS Compliant: Yes; Reach SVHC Compliant: Yes; ComponentLink1URL: https://datasheet.ciiva.com/1620/sn74ahc244-1620321.pdf?src-supplier=Newark; ComponentLink1Description: https://datasheet.ciiva.com/1620/sn74ahc244-1620321.pdf?src-supplier=Newark; ComponentLink2URL: https://datasheet.ciiva.com/15094/getdatasheetpartid-49308-15094305.pdf?src-supplier=Verical; ComponentLink2Description: https://datasheet.ciiva.com/15094/getdatasheetpartid-49308-15094305.pdf?src-supplier=Verical; ComponentLink3URL: https://datasheet.ciiva.com/7748/1815001-7748028.pdf?src-supplier=Element14; ComponentLink3Description: https://datasheet.ciiva.com/7748/1815001-7748028.pdf?src-supplier=Element14; ComponentLink4URL: https://datasheet.ciiva.com/1835/sn74ahc244-1835217.pdf?src-supplier=Digi-Key; ComponentLink4Description: https://datasheet.ciiva.com/1835/sn74ahc244-1835217.pdf?src-supplier=Digi-Key; ComponentLink5URL: https://datasheet.ciiva.com/14301/sn54ahc244-14301307.pdf?src-supplier=Avnet; ComponentLink5Description: https://datasheet.ciiva.com/14301/sn54ahc244-14301307.pdf?src-supplier=Avnet; Supplier Part Number 1: SN74AHC244DW
footprint SN74AHC244DW
pins: 1 1~{OE}, 2 1A1, 3 2Y4, 4 1A2, 5 2Y3, 6 1A3, 7 2Y2, 8 1A4, 9 2Y1, 10 GND, 11 2A1, 12 1Y4, 13 2A2, 14 1Y3, 15 2A3, 16 1Y2, 17 2A4, 18 1Y1, 19 2~{OE}, 20 VCC

## TMC2209-LA
designator U?
Motor / Motion / Ignition Controllers & Drivers Stepper Motor Driver/Controller, 4.75-28V, 2.0A, Step/Dir, QFN28; MP: TMC2209-LA; MF: Trinamic; Package: VFQFN-28 Trinamic; SnapEDA_Link: https://www.snapeda.com/parts/TMC2209-LA/Trinamic/view-part/?ref=snap; Value: *; Availability: In Stock; Price: None; Purchase-URL: https://pricing.snapeda.com/search/part/TMC2209-LA/?ref=eda; Check_prices: https://www.snapeda.com/parts/TMC2209-LA/Trinamic/view-part/?ref=eda
footprint QFN50P500X500X90-29N
pins: 1 OB2 (out), 2 ~{EN} (in), 3 GND (power), 4 CPO (out), 5 CPI (in), 6 VCP (power), 7 SPREAD (in), 8 5VOUT (power), 9 MS1_AD0 (in), 10 MS2_AD1 (in), 11 DIAG (out), 12 INDEX (out), 13 CLK (in), 14 ~{PD}_UART (io), 15 VCC_IO (power), 16 STEP (in), 17 VREF (in), 18 GND (power), 19 DIR (in), 20 STDBY (in), 21 OA2 (out), 22 VS (power), 23 BRA (io), 24 OA1 (out), 25 NC, 26 OB1 (out), 27 BRB (io), 28 VS (power), 29 EXP (power)

## TPS54560BDDA
designator U?
4.5-V to 60-V input, 5-A, step-down DC-DC converter with Eco-mode 8-SO PowerPAD -40 to 150; MF: Texas Instruments; MP: TPS54560BDDA; Arrow_Electronics-Purchase-URL: https://snapeda.com/shop?store=Arrow+Electronics&id=4328218; Price: None; SnapEDA_Link: https://www.snapeda.com/parts/TPS54560BDDA/Texas%20Instruments/view-part/4328218/?ref=snap; Mouser-Purchase-URL: https://snapeda.com/shop?store=Mouser&id=4328218; DigiKey-Purchase-URL: https://snapeda.com/shop?store=DigiKey&id=4328218; Value: *; Package: HSOIC-8 Texas Instruments; Availability: Good; Texas_Instruments-Purchase-URL: https://snapeda.com/shop?store=Texas+Instruments&id=4328218
footprint VREG_LM5017MR/NOPB
pins: 1 BOOT (out), 2 VIN (in), 3 EN (in), 4 RT/CLK (in), 5 FB (in), 6 COMP (out), 7 GND (power), 8 SW (in), 9 PAD (io)

## USB-A-S-X-X-TH
designator J?  (value not drawn)
USB-A (USB TYPE-A) USB 2.0 Receptacle Connector 4 Position Through Hole, Right Angle; MP: USB-A-S-S-W-TH; MF: Samtec; Package: None; Value: *; SnapEDA_Link: https://www.snapeda.com/parts/USB-A-S-S-W-TH/Samtec%20Inc./view-part/423470/?ref=snap; Digi-Key_Part_Number: SAM10373-ND; Toby_UK-Purchase-URL: https://snapeda.com/shop?store=Toby+UK&id=423470
footprint SAMTEC_USB-A-S-X-X-TH
pins: 01 VCC (power), 02 D- (io), 03 D+ (io), 04 GND (power), S1 SHIELD, S2 SHIELD

## USB-B-S-X-X-TH
designator J?  (value not drawn)
USB-B (USB TYPE-B) USB 2.0 Receptacle Connector 4 Position Through Hole, Right Angle; MP: USB-B-S-X-X-TH; Package: None; Price: None; Availability: Unavailable; Value: *; Supplier 1: Farnell; Supplier Part Number 1: 3664925
footprint SAMTEC_USB-B-S-X-X-TH
pins: 1 VCC (power), 2 D- (io), 3 D+ (io), 4 GND (power), S1 SHIELD, S2 SHIELD

## XC6206P302MR
designator VR?, comment XC6206-2.8V
Linear Voltage Regulator IC 1 Output 200mA SOT-23; MP: XC6206P302MR; Package: None; Price: None; Value: *; Availability: Unavailable
footprint SOT95P280X130-3N
pins: 1 VSS (power), 2 VOUT (out), 3 VIN (in)